# EAGLE library part CROMISH_BLUETOOTH (library cromish_BLUETOOTH)
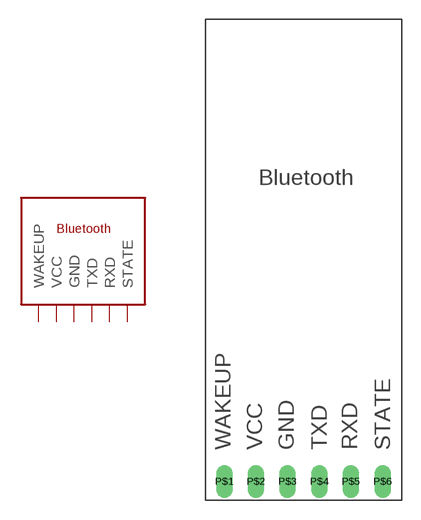
[diagram p0: symbol with the pads of CROMISH_BLUETOOTH; footprint CROMISH_BLUETOOTH]

Designator prefix -

## CROMISH_BLUETOOTH  [CROMISH_BLUETOOTH]
P$1  WAKEUP
P$2  VCC
P$3  GND
P$4  TXD
P$5  RXD
P$6  STATE

## Footprint CROMISH_BLUETOOTH (pad centres in mm)
drill 0.8 long: P$1 -6.5,-14.5; P$2 -4,-14.5; P$3 -1.5,-14.5; P$4 1,-14.5; P$5 3.5,-14.5; P$6 6,-14.5